# EAGLE library part MOLEX-10-08-XXXX(HEADER1X16-5.08MM) (library Traficon)
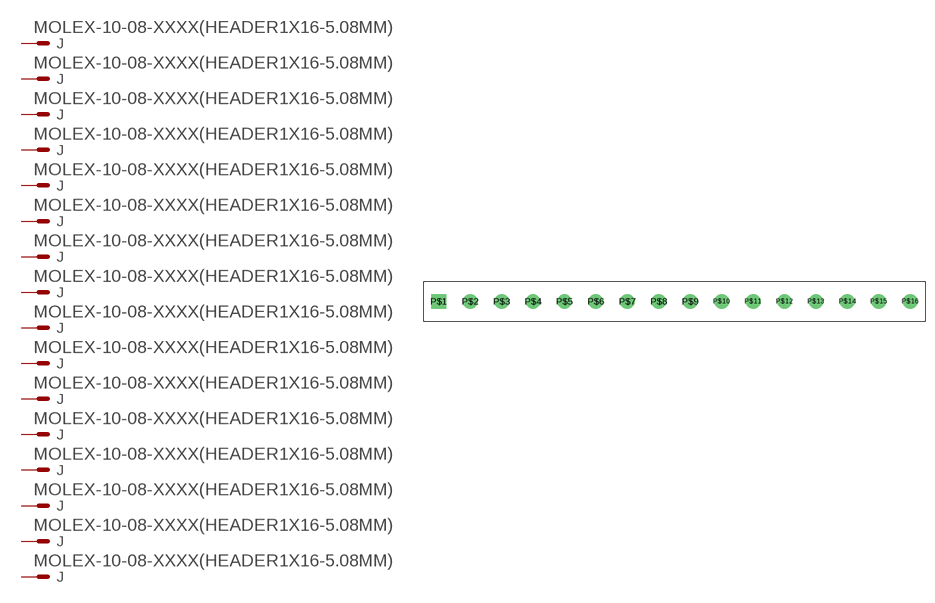
[diagram p219: symbol with the pads of MOLEX-10-08-XXXX(HEADER1X16-5.08MM); footprint MOLEX-10-08-XXXX(HEADER1X16-5.08MM)]

Designator prefix J

## MOLEX-10-08-XXXX(HEADER1X16-5.08MM)  [MOLEX-10-08-XXXX(HEADER1X16-5.08MM)]
P$1  S  pas
P$2  S1  pas
P$3  S2  pas
P$4  S3  pas
P$5  S4  pas
P$6  S5  pas
P$7  S6  pas
P$8  S7  pas
P$9  S8  pas
P$10  S9  pas
P$11  S10  pas
P$12  S11  pas
P$13  S12  pas
P$14  S13  pas
P$15  S14  pas
P$16  S15  pas

## Footprint MOLEX-10-08-XXXX(HEADER1X16-5.08MM) (pad centres in mm)
drill 1.6 square: P$1 -38.1,0
drill 1.6 round: P$2 -33.02,0; P$3 -27.94,0; P$4 -22.86,0; P$5 -17.78,0; P$6 -12.7,0; P$7 -7.62,0; P$8 -2.54,0; P$9 2.54,0; P$10 7.62,0; P$11 12.7,0; P$12 17.78,0; P$13 22.86,0; P$14 27.94,0; P$15 33.02,0; P$16 38.1,0